# Altium footprint library 3way single row right angle header 39-30-3037.PcbLib: 1 footprints
Each footprint in its own frame and in the unit in brackets; x right, y up, seen from the top. Pads: shape width x height; smd on the part's side, far side on the other; paste and mask are expansions set on the pad; w line width, h text height; cw(c..) or ccw(c..) is an arc to the next point about the centre after c.
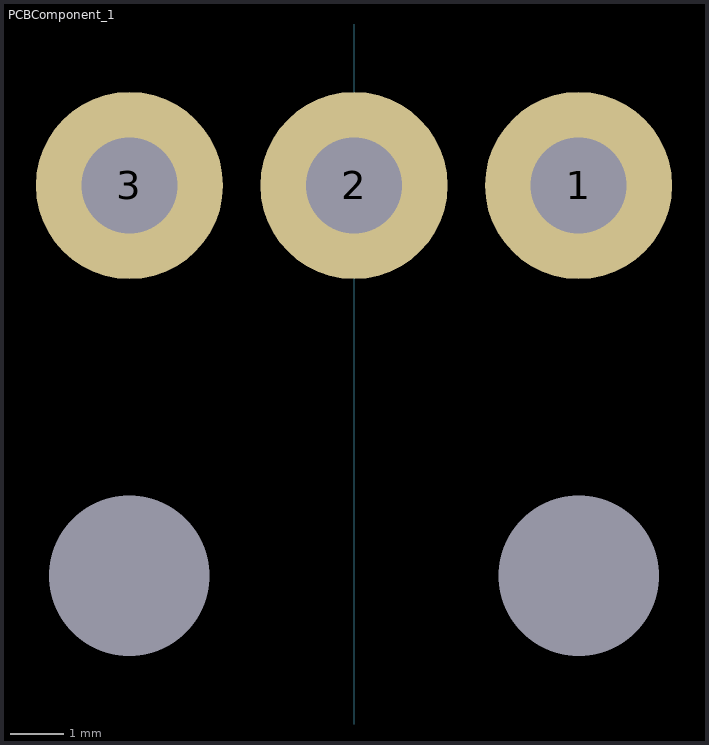
[diagram p0: the footprint, top view; thin cyan lines are the x and y axes]

## PCBComponent_1 [mm]
pads (5):
  round 3.5 hole 1.8: 1(4.2,13.55) 2(0,13.55) 3(-4.2,13.55)
  round 2 hole 3: ""(-4.2,6.25) ""(4.2,6.25)
3D body: height 7.2, standoff -3.6, extent -6.9,0 6.9,14.05